# Altium footprint library Microphone_array.PcbLib: 29 footprints (part 2 of 2)
Each footprint in its own frame and in the unit in brackets; x right, y up, seen from the top. Pads: shape width x height; smd on the part's side, far side on the other; paste and mask are expansions set on the pad; w line width, h text height; cw(c..) or ccw(c..) is an arc to the next point about the centre after c.
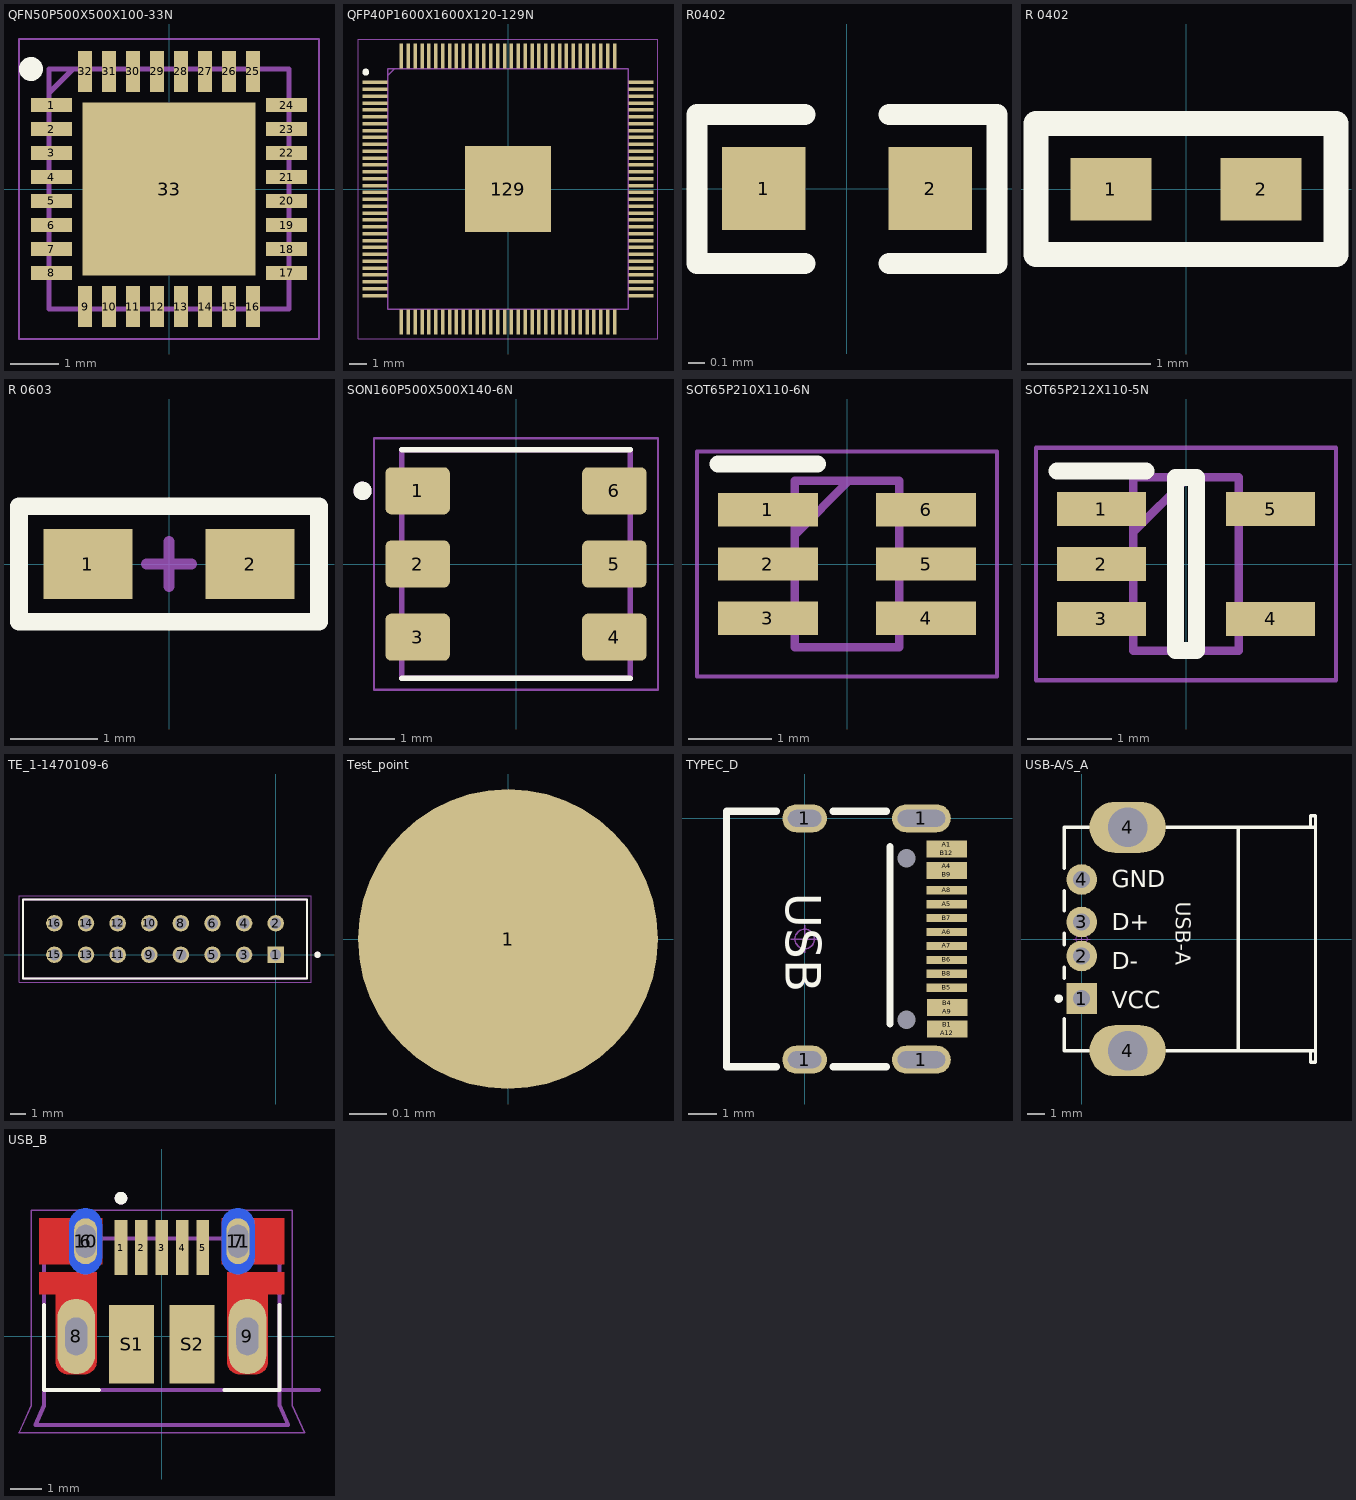
[diagram p1: the footprints below, top view; thin cyan lines are the x and y axes]

## QFN50P500X500X100-33N [mm]
pads (33):
  rect 0.85x0.3 smd: 1(-2.45,1.75) 2(-2.45,1.25) 3(-2.45,0.75) 4(-2.45,0.25) 5(-2.45,-0.25) 6(-2.45,-0.75) 7(-2.45,-1.25) 8(-2.45,-1.75) 17(2.45,-1.75) 18(2.45,-1.25) 19(2.45,-0.75) 20(2.45,-0.25) 21(2.45,0.25) 22(2.45,0.75) 23(2.45,1.25) 24(2.45,1.75)
  rect 0.3x0.85 smd: 9(-1.75,-2.45) 10(-1.25,-2.45) 11(-0.75,-2.45) 12(-0.25,-2.45) 13(0.25,-2.45) 14(0.75,-2.45) 15(1.25,-2.45) 16(1.75,-2.45) 25(1.75,2.45) 26(1.25,2.45) 27(0.75,2.45) 28(0.25,2.45) 29(-0.25,2.45) 30(-0.75,2.45) 31(-1.25,2.45) 32(-1.75,2.45)
  rect 3.6x3.6 smd: 33(0,0)
Top Overlay:
  circle w0.25: c-2.875,2.5 r0.125
Mechanical 15:
  lines w0.1: -2.5,2 -2,2.5 ; -2.5,-2.5 2.5,-2.5 2.5,2.5 -2.5,2.5 -2.5,-2.5
Mechanical 20:
  lines w0.05: -3.125,-3.125 3.125,-3.125 3.125,3.125 -3.125,3.125 -3.125,-3.125

## QFP40P1600X1600X120-129N [mm]
pads (129):
  rect 1.475x0.2 smd: 1(-7.738,6.2) 2(-7.738,5.8) 3(-7.738,5.4) 4(-7.738,5) 5(-7.738,4.6) 6(-7.738,4.2) 7(-7.738,3.8) 8(-7.738,3.4) 9(-7.738,3) 10(-7.738,2.6) 11(-7.738,2.2) 12(-7.738,1.8) 13(-7.738,1.4) 14(-7.738,1) 15(-7.738,0.6) 16(-7.738,0.2) 17(-7.738,-0.2) 18(-7.738,-0.6) 19(-7.738,-1) 20(-7.738,-1.4) 21(-7.738,-1.8) 22(-7.738,-2.2) 23(-7.738,-2.6) 24(-7.738,-3) 25(-7.738,-3.4) 26(-7.738,-3.8) 27(-7.738,-4.2) 28(-7.738,-4.6) 29(-7.738,-5) 30(-7.738,-5.4) 31(-7.738,-5.8) 32(-7.738,-6.2) 65(7.738,-6.2) 66(7.738,-5.8) 67(7.738,-5.4) 68(7.738,-5) 69(7.738,-4.6) 70(7.738,-4.2) 71(7.738,-3.8) 72(7.738,-3.4) 73(7.738,-3) 74(7.738,-2.6) 75(7.738,-2.2) 76(7.738,-1.8) 77(7.738,-1.4) 78(7.738,-1) 79(7.738,-0.6) 80(7.738,-0.2) 81(7.738,0.2) 82(7.738,0.6) 83(7.738,1) 84(7.738,1.4) 85(7.738,1.8) 86(7.738,2.2) 87(7.738,2.6) 88(7.738,3) 89(7.738,3.4) 90(7.738,3.8) 91(7.738,4.2) 92(7.738,4.6) 93(7.738,5) 94(7.738,5.4) 95(7.738,5.8) 96(7.738,6.2)
  rect 0.2x1.475 smd: 33(-6.2,-7.738) 34(-5.8,-7.738) 35(-5.4,-7.738) 36(-5,-7.738) 37(-4.6,-7.738) 38(-4.2,-7.738) 39(-3.8,-7.738) 40(-3.4,-7.738) 41(-3,-7.738) 42(-2.6,-7.738) 43(-2.2,-7.738) 44(-1.8,-7.738) 45(-1.4,-7.738) 46(-1,-7.738) 47(-0.6,-7.738) 48(-0.2,-7.738) 49(0.2,-7.738) 50(0.6,-7.738) 51(1,-7.738) 52(1.4,-7.738) 53(1.8,-7.738) 54(2.2,-7.738) 55(2.6,-7.738) 56(3,-7.738) 57(3.4,-7.738) 58(3.8,-7.738) 59(4.2,-7.738) 60(4.6,-7.738) 61(5,-7.738) 62(5.4,-7.738) 63(5.8,-7.738) 64(6.2,-7.738) 97(6.2,7.738) 98(5.8,7.738) 99(5.4,7.738) 100(5,7.738) 101(4.6,7.738) 102(4.2,7.738) 103(3.8,7.738) 104(3.4,7.738) 105(3,7.738) 106(2.6,7.738) 107(2.2,7.738) 108(1.8,7.738) 109(1.4,7.738) 110(1,7.738) 111(0.6,7.738) 112(0.2,7.738) 113(-0.2,7.738) 114(-0.6,7.738) 115(-1,7.738) 116(-1.4,7.738) 117(-1.8,7.738) 118(-2.2,7.738) 119(-2.6,7.738) 120(-3,7.738) 121(-3.4,7.738) 122(-3.8,7.738) 123(-4.2,7.738) 124(-4.6,7.738) 125(-5,7.738) 126(-5.4,7.738) 127(-5.8,7.738) 128(-6.2,7.738)
  rect 5x5 smd: 129(0,0)
Top Overlay:
  circle w0.2: c-8.275,6.8 r0.1
Mechanical 15:
  lines w0.1: -7,6.6 -6.6,7 ; -7,-7 7,-7 7,7 -7,7 -7,-7
Mechanical 20:
  lines w0.05: -8.725,-8.725 8.725,-8.725 8.725,8.725 -8.725,8.725 -8.725,-8.725

## R0402 [mm]
pads (2):
  rect 0.5x0.5 smd: 1(-0.5,0) 2(0.5,0)
Top Overlay:
  lines w0.127: -0.254,-0.45 -0.9,-0.45 -0.9,0.445 -0.254,0.445 ; 0.254,-0.45 0.9,-0.45 0.9,0.445 0.254,0.445
3D body "RES0402.STEP": height 0.2, standoff 0, extent -0.5,-0.3 0.5,0.3

## R 0402 [mil]
pads (2):
  rect 26x20 smd: 1(-24,0) 2(24,0)
Top Overlay:
  lines w8: -48,-21 48,-21 48,21 -48,21 -48,-21
3D body "R 0402.STEP": height 11.85, standoff -0.09, extent -19.68,-9.84 19.69,9.85

## R 0603 [mil]
pads (2):
  rect 40x31.5 smd: 1(-36.5,0) 2(36.5,0)
Top Overlay:
  lines w8: -67.5,-26 -67.5,26 67.5,26 67.5,-26 -67.5,-26
Mechanical 15:
  lines w5: -10,0 10,0 ; 0,-10 0,10
3D body "R 0603.STEP": height 15.79, standoff -0.13, extent -31.5,-15.75 31.5,15.75

## SON160P500X500X140-6N [mm]
pads (6):
  rrect25% 1.41x1.03 smd: 1(-2.15,1.6) 2(-2.15,0) 3(-2.15,-1.6) 4(2.15,-1.6) 5(2.15,0) 6(2.15,1.6)
Top Overlay:
  circle w0.2: c-3.355,1.6 r0.1
  lines w0.127: -2.5,-2.5 2.5,-2.5 ; -2.5,2.5 2.5,2.5
Mechanical 13:
  circle w0.2: c-3.355,1.6 r0.1
  lines w0.127: -2.5,-2.5 2.5,-2.5 2.5,2.5 -2.5,2.5 -2.5,-2.5
Mechanical 15:
  lines w0.05: -3.105,-2.75 3.105,-2.75 3.105,2.75 -3.105,2.75 -3.105,-2.75

## SOT65P210X110-6N [mm]
pads (6):
  rect 1.2x0.4 smd: 1(-0.95,0.65) 2(-0.95,0) 3(-0.95,-0.65) 4(0.95,-0.65) 5(0.95,0) 6(0.95,0.65)
Top Overlay:
  lines w0.2: -1.55,1.2 -0.35,1.2
Mechanical 15:
  lines w0.1: -0.625,0.35 0.025,1 ; -0.625,-1 -0.625,1 0.625,1 0.625,-1 -0.625,-1
Mechanical 20:
  lines w0.05: -1.8,-1.35 -1.8,1.35 1.8,1.35 1.8,-1.35 -1.8,-1.35

## SOT65P212X110-5N [mm]
pads (5):
  rect 1.05x0.4 smd: 1(-1,0.65) 2(-1,0) 3(-1,-0.65) 4(1,-0.65) 5(1,0.65)
Top Overlay:
  lines w0.2: -1.525,1.1 -0.475,1.1 ; -0.125,-1.025 0.125,-1.025 0.125,1.025 -0.125,1.025 -0.125,-1.025
Mechanical 15:
  lines w0.1: -0.625,0.375 0.025,1.025 ; -0.625,-1.025 0.625,-1.025 0.625,1.025 -0.625,1.025 -0.625,-1.025
Mechanical 20:
  lines w0.05: -1.775,-1.375 1.775,-1.375 1.775,1.375 -1.775,1.375 -1.775,-1.375

## TE_1-1470109-6 [mm]
pads (16):
  rect 1.05x1.05 hole 0.7: 1(0,0)
  round 1.05 hole 0.7: 2(0,2) 3(-2.007,0) 4(-2.007,2) 5(-4.013,0) 6(-4.013,2) 7(-6.02,0) 8(-6.02,2) 9(-8.026,0) 10(-8.026,2) 11(-10.033,0) 12(-10.033,2) 13(-12.04,0) 14(-12.04,2) 15(-14.046,0) 16(-14.046,2)
Top Overlay:
  circle w0.2: c2.65,0 r0.1
  lines w0.127: -16.046,-1.5 -16.046,3.5 2,3.5 2,-1.5 -16.046,-1.5
Mechanical 13:
  circle w0.2: c2.65,0 r0.1
  lines w0.127: -16.046,-1.5 -16.046,3.5 ; -16.046,-1.5 2,-1.5 ; -16.046,-1.5 -16.046,3.5 ; -16.046,3.5 2,3.5 ; -16.046,3.5 2,3.5 ; 2,-1.5 2,3.5 ; 2,-1.5 2,3.5
Mechanical 15:
  lines w0.05: -16.296,-1.75 -16.296,3.75 2.25,3.75 2.25,-1.75 -16.296,-1.75

## Test_point [mm]
pads (1):
  round 0.8 smd: 1(0,0)

## TYPEC_D [mm]
pads (22):
  round 0 hole 0.65: 0(3.65,-7.21) 0(3.65,-1.43)
  oval 1.6x1 hole 0.6 slot 1.2 at 0 deg: 1(0,-8.64) 1(0,0)
  oval 2.1x1 hole 0.6 slot 1.7 at 0 deg: 1(4.18,-8.64) 1(4.18,0)
  rect 1.45x0.3 smd: A1(5.092,-0.945) A4(5.092,-1.72) A5(5.092,-3.07) A6(5.092,-4.07) A7(5.092,-4.57) A8(5.092,-2.57) A9(5.1,-6.92) A12(5.1,-7.695) B1(5.1,-7.395) B4(5.1,-6.62) B5(5.092,-6.07) B6(5.092,-5.07) B7(5.092,-3.57) B8(5.092,-5.57) B9(5.092,-2.02) B12(5.092,-1.245)
Top Overlay:
  lines w0.254: -1.016,-8.892 -2.794,-8.892 -2.794,0.252 -1.016,0.252 ; 1.016,-8.892 2.921,-8.892 ; 1.016,0.252 2.921,0.252 ; 3.048,-7.368 3.048,-1.018
  text "USB" at -0.675,-2.659 h1.27
Mechanical 15:
  circle w0.05: c0,-4.32 r0.35
  lines w0.05: -0.5,-4.32 0.5,-4.32 ; 0,-4.82 0,-3.82
3D body "USB Type-C_A.STEP": height 3.25, standoff -0.85, extent -2.6,-8.79 5.3,0.15

## USB-A/S_A [mm]
pads (6):
  rect 1.8x1.8 hole 1: 1(0,-3.5)
  round 1.8 hole 1: 2(0,-1) 3(0,1) 4(0,3.5)
  oval 4.5x3 hole 2.3: 4(2.71,-6.57) 4(2.71,6.57)
Top Overlay:
  circle w0.25: c-1.35,-3.5 r0.125
  lines w0.2: -1.01,-4.7 -1.01,-6.565 0.41,-6.565 ; -1.01,-2.3 -1.01,-1.66 ; -1.01,-0.34 -1.01,0.34 ; -1.01,1.66 -1.01,2.84 ; -1.01,4.16 -1.01,6.565 0.41,6.565 ; 5.01,-6.565 13.752,-6.565 ; 5.01,6.565 13.752,6.565 ; 13.462,-6.565 13.462,-7.25 13.752,-7.25 13.752,7.25 13.462,7.25 13.462,6.565
  lines w0.203: 9.21,-6.565 9.21,6.565
  text "GND" at 1.778,3.048 h1.02
  text "D+" at 1.778,0.508 h1.02
  text "D-" at 1.778,-1.778 h1.02
  text "VCC" at 1.778,-4.064 h1.02
  text "USB-A" at 5.241,2.189 h1.52
Mechanical 15:
  circle w0.05: c0,0 r0.35
  lines w0.05: -0.5,0 0.5,0 ; 0,-0.5 0,0.5
3D body "USB A型 ?": height 6.8, standoff -4.31, extent -0.605,-7.342 13.7,7.342

## USB_B [mm]
pads (13):
  rect 0.4x1.75 smd: 1(-1.3,2.825) 2(-0.65,2.825) 3(0,2.825) 4(0.65,2.825) 5(1.3,2.825)
  oval 0.73x1.46 hole 0.65 slot 1.05 at 90 deg mask+0: 6(-2.425,3.03) 7(2.425,3.03)
  oval 1.2x2.4 hole 0.7 slot 1.2 at 90 deg: 8(-2.725,0) 9(2.725,0)
  oval 1.05x2.1 smd far side paste-2: 10(-2.425,3.03) 11(2.425,3.03)
  rect 1.425x2.5 smd: S1(-0.962,-0.25) S2(0.962,-0.25)
Top Layer:
  region: 3.9,1.35 3.375,1.35 3.375,-0.8 3.374,-0.821 3.373,-0.842 3.37,-0.863 3.366,-0.883 3.361,-0.904 3.355,-0.924 3.348,-0.943 3.34,-0.963 3.331,-0.982 3.321,-1 3.31,-1.018 3.299,-1.035 3.286,-1.052 3.272,-1.068 3.258,-1.083 3.243,-1.097 3.227,-1.111 3.21,-1.124 3.193,-1.135 3.175,-1.146 3.157,-1.156 3.138,-1.165 3.118,-1.173 3.099,-1.18 3.079,-1.186 3.058,-1.191 3.038,-1.195 3.017,-1.198 2.996,-1.199 2.975,-1.2 2.475,-1.2 2.454,-1.199 2.433,-1.198 2.412,-1.195 2.392,-1.191 2.371,-1.186 2.351,-1.18 2.332,-1.173 2.312,-1.165 2.293,-1.156 2.275,-1.146 2.257,-1.135 2.24,-1.124 2.223,-1.111 2.207,-1.097 2.192,-1.083 2.178,-1.068 2.164,-1.052 2.151,-1.035 2.14,-1.018 2.129,-1 2.119,-0.982 2.11,-0.963 2.102,-0.943 2.095,-0.924 2.089,-0.904 2.084,-0.883 2.08,-0.863 2.077,-0.842 2.076,-0.821 2.075,-0.8 2.075,2.05 3.9,2.05
  region: -2.075,-0.8 -2.076,-0.821 -2.077,-0.842 -2.08,-0.863 -2.084,-0.883 -2.089,-0.904 -2.095,-0.924 -2.102,-0.943 -2.11,-0.963 -2.119,-0.982 -2.129,-1 -2.14,-1.018 -2.151,-1.035 -2.164,-1.052 -2.178,-1.068 -2.192,-1.083 -2.207,-1.097 -2.223,-1.111 -2.24,-1.124 -2.257,-1.135 -2.275,-1.146 -2.293,-1.156 -2.312,-1.165 -2.332,-1.173 -2.351,-1.18 -2.371,-1.186 -2.392,-1.191 -2.412,-1.195 -2.433,-1.198 -2.454,-1.199 -2.475,-1.2 -2.975,-1.2 -2.996,-1.199 -3.017,-1.198 -3.038,-1.195 -3.058,-1.191 -3.079,-1.186 -3.099,-1.18 -3.118,-1.173 -3.138,-1.165 -3.157,-1.156 -3.175,-1.146 -3.193,-1.135 -3.21,-1.124 -3.227,-1.111 -3.243,-1.097 -3.258,-1.083 -3.272,-1.068 -3.286,-1.052 -3.299,-1.035 -3.31,-1.018 -3.321,-1 -3.331,-0.982 -3.34,-0.963 -3.348,-0.943 -3.355,-0.924 -3.361,-0.904 -3.366,-0.883 -3.37,-0.863 -3.373,-0.842 -3.374,-0.821 -3.375,-0.8 -3.375,1.35 -3.9,1.35 -3.9,2.05 -2.075,2.05
  region: 3.9,2.3 1.9,2.3 1.9,3.76 3.9,3.76
  region: -1.9,2.3 -3.9,2.3 -3.9,3.76 -1.9,3.76
Top Overlay:
  circle w0.2: c-1.3,4.4 r0.1
  lines w0.127: -3.75,1 -3.75,-1.7 -1.995,-1.7 ; 1.995,-1.7 3.75,-1.7 3.75,1
Top Solder:
  region: 4,1.25 3.475,1.25 3.475,-0.8 3.474,-0.826 3.472,-0.852 3.469,-0.878 3.464,-0.904 3.458,-0.929 3.451,-0.955 3.442,-0.979 3.432,-1.003 3.421,-1.027 3.408,-1.05 3.394,-1.072 3.38,-1.094 3.364,-1.115 3.347,-1.135 3.329,-1.154 3.31,-1.172 3.29,-1.189 3.269,-1.205 3.247,-1.219 3.225,-1.233 3.202,-1.246 3.178,-1.257 3.154,-1.267 3.13,-1.276 3.104,-1.283 3.079,-1.289 3.053,-1.294 3.027,-1.297 3.001,-1.299 2.975,-1.3 2.475,-1.3 2.449,-1.299 2.423,-1.297 2.397,-1.294 2.371,-1.289 2.346,-1.283 2.32,-1.276 2.296,-1.267 2.272,-1.257 2.248,-1.246 2.225,-1.233 2.203,-1.219 2.181,-1.205 2.16,-1.189 2.14,-1.172 2.121,-1.154 2.103,-1.135 2.086,-1.115 2.07,-1.094 2.056,-1.072 2.042,-1.05 2.029,-1.027 2.018,-1.003 2.008,-0.979 1.999,-0.955 1.992,-0.929 1.986,-0.904 1.981,-0.878 1.978,-0.852 1.976,-0.826 1.975,-0.8 1.975,2.15 4,2.15
  region: 4,2.2 1.8,2.2 1.8,3.86 4,3.86
  region: -1.8,2.2 -4,2.2 -4,3.86 -1.8,3.86
  region: -1.975,-0.8 -1.976,-0.826 -1.978,-0.852 -1.981,-0.878 -1.986,-0.904 -1.992,-0.929 -1.999,-0.955 -2.008,-0.979 -2.018,-1.003 -2.029,-1.027 -2.042,-1.05 -2.056,-1.072 -2.07,-1.094 -2.086,-1.115 -2.103,-1.135 -2.121,-1.154 -2.14,-1.172 -2.16,-1.189 -2.181,-1.205 -2.203,-1.219 -2.225,-1.233 -2.248,-1.246 -2.272,-1.257 -2.296,-1.267 -2.32,-1.276 -2.346,-1.283 -2.371,-1.289 -2.397,-1.294 -2.423,-1.297 -2.449,-1.299 -2.475,-1.3 -2.975,-1.3 -3.001,-1.299 -3.027,-1.297 -3.053,-1.294 -3.079,-1.289 -3.104,-1.283 -3.13,-1.276 -3.154,-1.267 -3.178,-1.257 -3.202,-1.246 -3.225,-1.233 -3.247,-1.219 -3.269,-1.205 -3.29,-1.189 -3.31,-1.172 -3.329,-1.154 -3.347,-1.135 -3.364,-1.115 -3.38,-1.094 -3.394,-1.072 -3.408,-1.05 -3.421,-1.027 -3.432,-1.003 -3.442,-0.979 -3.451,-0.955 -3.458,-0.929 -3.464,-0.904 -3.469,-0.878 -3.472,-0.852 -3.474,-0.826 -3.475,-0.8 -3.475,1.25 -4,1.25 -4,2.15 -1.975,2.15
Mechanical 13:
  circle w0.2: c-1.3,4.4 r0.1
  lines w0.127: 5,-1.7 -3.75,-1.7 ; -3.75,-1.7 -3.75,-2.2 -4.02,-2.82 4.02,-2.82 3.75,-2.2 3.75,3.11 -3.75,3.11 -3.75,-1.7
  text "PCB EDGE" at 4.5,-1.5 h0.81
Mechanical 15:
  lines w0.05: -4.545,-3.07 -4.15,-2.2 -4.15,4.01 4.15,4.01 4.15,-2.2 4.545,-3.07 -4.545,-3.07